# EAGLE library part RASPBERRY_PI_B+ (library SWI_COMMONS)
Raspberry Pi B+ Basedon issue: Thursday, July 10, 2014 - Rev 1.2 LBR by Tim Rettmann 07-2014
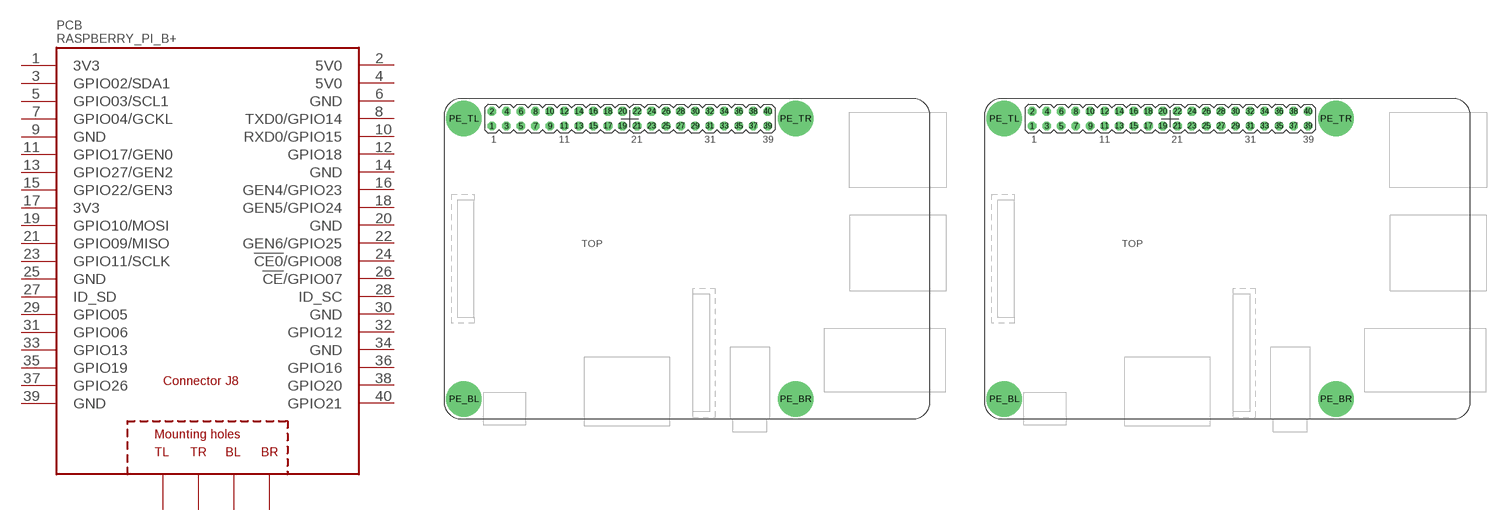
[diagram p1: symbol with the pads of RASPBERRY_PI_BPLUS_TPLACE; footprints RASPBERRY_PI_BPLUS_TPLACE, RASPBERRY_PI_BPLUS_DIM]

Designator prefix PCB

## RASPBERRY_PI_B+_TPLACE  [RASPBERRY_PI_BPLUS_TPLACE]
1  3V3  pwr
2  5V0  pwr
3  GPIO02/SDA1
4  5V0  pwr
5  GPIO03/SCL1
6  GND  pwr
7  GPIO04/GCKL
8  TXD0/GPIO14
9  GND  pwr
10  RXD0/GPIO15
11  GPIO17/GEN0
12  GPIO18
13  GPIO27/GEN2
14  GND  pwr
15  GPIO22/GEN3
16  GEN4/GPIO23
17  3V3  pwr
18  GEN5/GPIO24
19  GPIO10/MOSI
20  GND  pwr
21  GPIO09/MISO
22  GEN6/GPIO25
23  GPIO11/SCLK
24  !CE0!/GPIO08
25  GND  pwr
26  !CE!/GPIO07
27  ID_SD
28  ID_SC
29  GPIO05
30  GND  pwr
31  GPIO06
32  GPIO12
33  GPIO13
34  GND  pwr
35  GPIO19
36  GPIO16
37  GPIO26
38  GPIO20
39  GND  pwr
40  GPIO21
PE_BL  BL
PE_BR  BR
PE_TL  TL
PE_TR  TR

## RASPBERRY_PI_B+_DIM  [RASPBERRY_PI_BPLUS_DIM]
Pads as for RASPBERRY_PI_BPLUS_TPLACE

## Footprint RASPBERRY_PI_BPLUS_TPLACE (pad centres in mm)
drill 1.016 octagon: 1 8.37,51.23; 2 8.37,53.77; 3 10.91,51.23; 4 10.91,53.77; 5 13.45,51.23; 6 13.45,53.77; 7 15.99,51.23; 8 15.99,53.77; 9 18.53,51.23; 10 18.53,53.77; 11 21.07,51.23; 12 21.07,53.77; 13 23.61,51.23; 14 23.61,53.77; 15 26.15,51.23; 16 26.15,53.77; 17 28.69,51.23; 18 28.69,53.77; 19 31.23,51.23; 20 31.23,53.77; 21 33.77,51.23; 22 33.77,53.77; 23 36.31,51.23; 24 36.31,53.77; 25 38.85,51.23; 26 38.85,53.77; 27 41.39,51.23; 28 41.39,53.77; 29 43.93,51.23; 30 43.93,53.77; 31 46.47,51.23; 32 46.47,53.77; 33 49.01,51.23; 34 49.01,53.77; 35 51.55,51.23; 36 51.55,53.77; 37 54.09,51.23; 38 54.09,53.77; 39 56.63,51.23; 40 56.63,53.77
drill 2.75 pad 6.2: PE_BL 3.5,3.5; PE_BR 61.5,3.5; PE_TL 3.5,52.5; PE_TR 61.5,52.5

## Footprint RASPBERRY_PI_BPLUS_DIM (pad centres in mm)
drill 1.016 octagon: 1 8.37,51.23; 2 8.37,53.77; 3 10.91,51.23; 4 10.91,53.77; 5 13.45,51.23; 6 13.45,53.77; 7 15.99,51.23; 8 15.99,53.77; 9 18.53,51.23; 10 18.53,53.77; 11 21.07,51.23; 12 21.07,53.77; 13 23.61,51.23; 14 23.61,53.77; 15 26.15,51.23; 16 26.15,53.77; 17 28.69,51.23; 18 28.69,53.77; 19 31.23,51.23; 20 31.23,53.77; 21 33.77,51.23; 22 33.77,53.77; 23 36.31,51.23; 24 36.31,53.77; 25 38.85,51.23; 26 38.85,53.77; 27 41.39,51.23; 28 41.39,53.77; 29 43.93,51.23; 30 43.93,53.77; 31 46.47,51.23; 32 46.47,53.77; 33 49.01,51.23; 34 49.01,53.77; 35 51.55,51.23; 36 51.55,53.77; 37 54.09,51.23; 38 54.09,53.77; 39 56.63,51.23; 40 56.63,53.77
drill 2.75 pad 6.2: PE_BL 3.5,3.5; PE_BR 61.5,3.5; PE_TL 3.5,52.5; PE_TR 61.5,52.5